# Altium schematic symbol library Schlib1.SchLib: 53 symbols
Pins are listed as number, name and electrical type; pins without a type are passive.

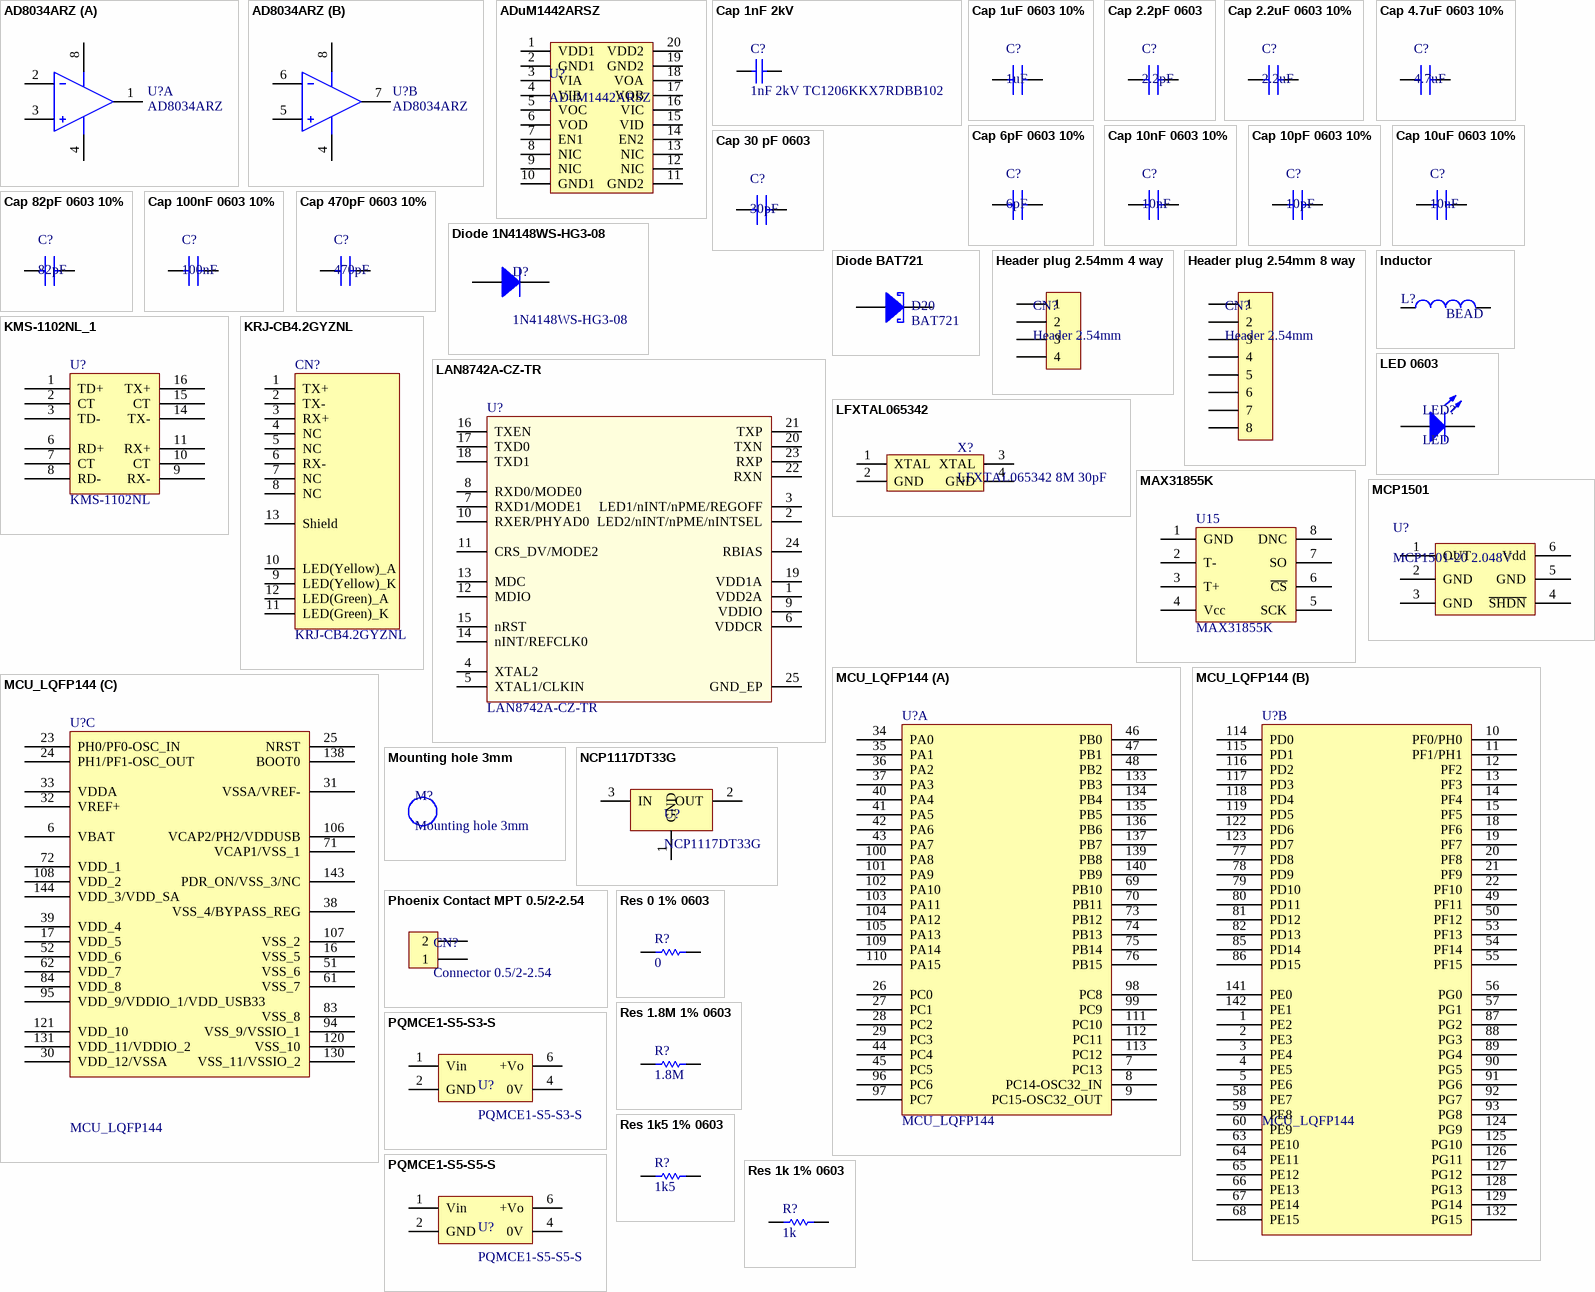
[diagram p0: symbols AD8034ARZ to Res 1k 1% 0603]

## AD8034ARZ
designator U?
dual op amp; Published: 8-Jun-2000; LatestRevisionDate: 17-Jul-2002; LatestRevisionNote: Re-released for DXP Platform.; DatasheetVersion: REV. B; PackageVersion: 1990; PackageReference: H-08A; Publisher: Altium Limited; PackageDescription: Can; 8 Leads; Pin Circle Dia. 5.08 mm; Lead Dia. 0.53 mm (max); ComponentLink1Description: Manufacturer Link; ComponentLink1URL: http://www.analog.com/
simulation model AD645A (Spice Subcircuit)
footprint 8-SOIC_N AD8034ARZ
part A pins: 1 OUT1, 2 -IN1, 3 +IN1, 4 V- (power), 8 V+ (power)
part B pins: 4 V- (power), 5 +IN2, 6 -IN2, 7 OUT1, 8 V+ (power)

## ADuM1442ARSZ
designator U?
ADuM1442ARSZ isolator; Manuf_Part_1: MCT 0603-50 1% P5 12K1; Manuf_1: VISHAY; Value: 12K1; Order: 2325243; ECCN_US/EU: n/a; Distrib: FARNELL
footprint SSOP ADuM1442ARSZ
pins: 1 VDD1, 2 GND1, 3 VIA, 4 VIB, 5 VOC, 6 VOD, 7 EN1, 8 NIC, 9 NIC, 10 GND1, 11 GND2, 12 NIC, 13 NIC, 14 EN2, 15 VID, 16 VIC, 17 VOB, 18 VOA, 19 GND2, 20 VDD2

## Cap 1nF 2kV
designator C?, comment 1nF 2kV TC1206KKX7RDBB102
Capacitor 1nF 2kV; Value: 100nF; Revision: July-2002: Re-released for DXP Platform.
footprint CAP_1206 (Chip Capacitor, Body 3.2x1.6mm, Height 1mm, IPC Medium Density)
pins: 1, 2

## Cap 1uF 0603 10%
designator C?, comment 1uF
footprint Cap_0603
pins: 1, 2

## Cap 2.2pF 0603
designator C?, comment 2.2pF
footprint Cap_0603
pins: 1, 2

## Cap 2.2uF 0603 10%
designator C?, comment 2.2uF
footprint Cap_0603
pins: 1, 2

## Cap 4.7uF 0603 10%
designator C?, comment 4.7uF
footprint Cap_0603
pins: 1, 2

## Cap 6pF 0603 10%
designator C?, comment 6pF
footprint Cap_0603
pins: 1, 2

## Cap 10nF 0603 10%
designator C?, comment 10nF
footprint Cap_0603
pins: 1, 2

## Cap 10pF 0603 10%
designator C?, comment 10pF
footprint Cap_0603
pins: 1, 2

## Cap 10uF 0603 10%
designator C?, comment 10uF
footprint Cap_0603
pins: 1, 2

## Cap 30 pF 0603
designator C?, comment 30pF
footprint Cap_0603
pins: 1, 2

## Cap 82pF 0603 10%
designator C?, comment 82pF
footprint Cap_0603
pins: 1, 2

## Cap 100nF 0603 10%
designator C?, comment 100nF
footprint Cap_0603
pins: 1, 2

## Cap 470pF 0603 10%
designator C?, comment 470pF
footprint Cap_0603
pins: 1, 2

## Diode 1N4148WS-HG3-08
designator D?, comment 1N4148WS-HG3-08
Published: 8-Jun-2000; LatestRevisionDate: 17-Jul-2002; LatestRevisionNote: Re-released for DXP Platform.; PackageVersion: Sep-1996; PackageReference: SMC; Publisher: Altium Limited; PackageDescription: DO-214-AB/SMC; 2 C-Bend Leads; Body 7.9 x 5.9 mm, inc. leads (LxW); Code_JEDEC: DO-214-AB
simulation model DIODE (Diode)
signal-integrity model Diode
footprint SOD-323 diode 1N4148WS-HG3-08 (1N4148WS-HG3-08)
pins: 1 A, 2 K

## Diode BAT721
designator D20, comment BAT721
Schottky diode BAT721; Published: 8-Jun-2000; LatestRevisionDate: 17-Jul-2002; LatestRevisionNote: Re-released for DXP Platform.; PackageVersion: Sep-1996; PackageReference: SMC; Publisher: Altium Limited; PackageDescription: DO-214-AB/SMC; 2 C-Bend Leads; Body 7.9 x 5.9 mm, inc. leads (LxW); Code_JEDEC: DO-214-AB
simulation model DIODE (Diode)
signal-integrity model Diode
footprint SOT23 BAT721
pins: 1 A, 2 K

## Header plug 2.54mm 4 way
designator CN?, comment Header 2.54mm
footprint header 2.54mm 4way
pins: 1, 2, 3, 4

## Header plug 2.54mm 8 way
designator CN?, comment Header 2.54mm
footprint header 2.54mm 8way
pins: 1, 2, 3, 4, 5, 6, 7, 8

## Inductor
designator L?, comment BEAD
Inductor; Value: 100uH; Published: 8-Jun-2000; Revision: July-2002: Re-released for DXP Platform.; Publisher: Altium Limited
footprint Cap_0603
pins: 1, 2

## KMS-1102NL_1
designator U?, comment KMS-1102NL
footprint Transformer (Footprint not found)
footprint Trans. KMS-1102NL
pins: 1 TD+, 2 CT, 3 TD-, 6 RD+, 7 CT, 8 RD-, 9 RX-, 10 CT, 11 RX+, 14 TX-, 15 CT, 16 TX+

## KRJ-CB4.2GYZNL
designator CN?
100 Base-TX (Fast Ethernet) SMD RJ45 single port (1x1) with LEDS Integrated Magnetics Connector; Manuf_1: HanRun; Manuf_Part_1: HR961160C; Manuf_2: Pulse Electronics Corporation; Manuf_Part_2: J3011G21DNLT; Manuf_3: K.O.D International Holding; Manuf_Part_3: RMT-119A-12F6-GY-04; Distrib: Sub Co; Order: *
footprint RJ45_KRJ-CB4.2GYZNL (RJ45  connector, right angle)
pins: 1 TX+, 2 TX-, 3 RX+, 4 NC, 5 NC, 6 RX-, 7 NC, 8 NC, 9 LED(Yellow)_K, 10 LED(Yellow)_A, 11 LED(Green)_K, 12 LED(Green)_A, 13 Shield

## LAN8742A-CZ-TR
designator U?
LAN8742A-CZ-TR - Small Footprint RMII 10/100 Ethernet, Transceiver with HP Auto-MDIX and flexPWR Technology SQFN-24; Manuf_1: MICROCHIP; Order: LAN8742A-CZ-TR; Manuf_Part_1: LAN8742A-CZ-TR; Distrib: MICROCHIP
footprint QFN24_0R5_4X4 (SQFN 24 Pins, Pitch 0.5mm, 4mmx4mm)
pins: 1 VDD2A, 2 LED2/nINT/nPME/nINTSEL, 3 LED1/nINT/nPME/REGOFF, 4 XTAL2, 5 XTAL1/CLKIN, 6 VDDCR, 7 RXD1/MODE1, 8 RXD0/MODE0, 9 VDDIO, 10 RXER/PHYAD0, 11 CRS_DV/MODE2, 12 MDIO, 13 MDC, 14 nINT/REFCLK0, 15 nRST, 16 TXEN, 17 TXD0, 18 TXD1, 19 VDD1A, 20 TXN, 21 TXP, 22 RXN, 23 RXP, 24 RBIAS, 25 GND_EP

## LED 0603
designator LED?, comment LED
footprint LED 0603
pins: 1 A, 2 K

## LFXTAL065342
designator X?, comment LFXTAL065342 8M 30pF
footprint LFXTAL065342Reel
pins: 1 XTAL, 2 GND, 3 XTAL, 4 GND

## MAX31855K
designator U15
Thermocouple to digital converter
footprint SOIC127P600X175-8N
pins: 1 GND, 2 T-, 3 T+, 4 Vcc, 5 SCK, 6 ~{CS}, 7 SO, 8 DNC

## MCP1501
designator U?, comment MCP1501-20 2.048V
Voltage reference MCP1501T-20E/CHY
footprint SOT23 MCP1501
pins: 1 OUT, 2 GND, 3 GND, 4 ~{SHDN}, 5 GND, 6 Vdd

## MCU_LQFP144
designator U?
footprint LQFP144_0R5_SKT (32-bit MCU ARM-based Cortex-M3 20 X 20mm, 0.5mm Pitch, 1.6mm Max thickness)
part A pins: 7 PC13, 8 PC14-OSC32_IN, 9 PC15-OSC32_OUT, 26 PC0, 27 PC1, 28 PC2, 29 PC3, 34 PA0, 35 PA1, 36 PA2, 37 PA3, 40 PA4, 41 PA5, 42 PA6, 43 PA7, 44 PC4, 45 PC5, 46 PB0, 47 PB1, 48 PB2, 69 PB10, 70 PB11, 73 PB12, 74 PB13, 75 PB14, 76 PB15, 96 PC6, 97 PC7, 98 PC8, 99 PC9, 100 PA8, 101 PA9, 102 PA10, 103 PA11, 104 PA12, 105 PA13, 109 PA14, 110 PA15, 111 PC10, 112 PC11, 113 PC12, 133 PB3, 134 PB4, 135 PB5, 136 PB6, 137 PB7, 139 PB8, 140 PB9
part B pins: 1 PE2, 2 PE3, 3 PE4, 4 PE5, 5 PE6, 10 PF0/PH0, 11 PF1/PH1, 12 PF2, 13 PF3, 14 PF4, 15 PF5, 18 PF6, 19 PF7, 20 PF8, 21 PF9, 22 PF10, 49 PF11, 50 PF12, 53 PF13, 54 PF14, 55 PF15, 56 PG0, 57 PG1, 58 PE7, 59 PE8, 60 PE9, 63 PE10, 64 PE11, 65 PE12, 66 PE13, 67 PE14, 68 PE15, 77 PD8, 78 PD9, 79 PD10, 80 PD11, 81 PD12, 82 PD13, 85 PD14, 86 PD15, 87 PG2, 88 PG3, 89 PG4, 90 PG5, 91 PG6, 92 PG7, 93 PG8, 114 PD0, 115 PD1, 116 PD2, 117 PD3, 118 PD4, 119 PD5, 122 PD6, 123 PD7, 124 PG9, 125 PG10, 126 PG11, 127 PG12, 128 PG13, 129 PG14, 132 PG15, 141 PE0, 142 PE1
part C pins: 6 VBAT, 16 VSS_5, 17 VDD_5, 23 PH0/PF0-OSC_IN, 24 PH1/PF1-OSC_OUT, 25 NRST, 30 VDD_12/VSSA, 31 VSSA/VREF-, 32 VREF+, 33 VDDA, 38 VSS_4/BYPASS_REG, 39 VDD_4, 51 VSS_6, 52 VDD_6, 61 VSS_7, 62 VDD_7, 71 VCAP1/VSS_1, 72 VDD_1, 83 VSS_8, 84 VDD_8, 94 VSS_9/VSSIO_1, 95 VDD_9/VDDIO_1/VDD_USB33, 106 VCAP2/PH2/VDDUSB, 107 VSS_2, 108 VDD_2, 120 VSS_10, 121 VDD_10, 130 VSS_11/VSSIO_2, 131 VDD_11/VDDIO_2, 138 BOOT0, 143 PDR_ON/VSS_3/NC, 144 VDD_3/VDD_SA

## Mounting hole 3mm
designator M?
footprint Mounting_Hole_3mm

## NCP1117DT33G
designator U?
Voltage regulator output 3.3V 800mA (JLC PCB) DPACK
footprint DPACK
pins: 1 GND, 2 OUT, 3 IN

## Phoenix Contact MPT 0.5/2-2.54
designator CN?, comment Connector 0.5/2-2.54
Phoenix Contact MPT 0.5/2-2.54
footprint Connector 0.5/2-2.54
pins: 1, 2

## PQMCE1-S5-S3-S
designator U?
DC-DC isolated coverter 5V to 3.3V
footprint PQMCE1 (DC-DC conv.)
pins: 1 Vin, 2 GND, 4 0V, 6 +Vo

## PQMCE1-S5-S5-S
designator U?
DC-DC isolated coverter 5V to 5V
footprint PQMCE1 (DC-DC conv.)
pins: 1 Vin, 2 GND, 4 0V, 6 +Vo

## Res 0 1% 0603
designator R?, comment 0
Manuf_Part_1: MCT 0603-50 1% P5 12K1; Manuf_1: VISHAY; Value: 12K1; Order: 2325243; ECCN_US/EU: n/a; Distrib: FARNELL
footprint Res_0603
pins: 1, 2

## Res 1.8M 1% 0603
designator R?, comment 1.8M
Manuf_Part_1: MCT 0603-50 1% P5 12K1; Manuf_1: VISHAY; Value: 12K1; Order: 2325243; ECCN_US/EU: n/a; Distrib: FARNELL
footprint Res_0603
pins: 1, 2

## Res 1k5 1% 0603
designator R?, comment 1k5
Manuf_Part_1: MCT 0603-50 1% P5 12K1; Manuf_1: VISHAY; Value: 12K1; Order: 2325243; ECCN_US/EU: n/a; Distrib: FARNELL
footprint Res_0603
pins: 1, 2

## Res 1k 1% 0603
designator R?, comment 1k
Manuf_Part_1: MCT 0603-50 1% P5 12K1; Manuf_1: VISHAY; Value: 12K1; Order: 2325243; ECCN_US/EU: n/a; Distrib: FARNELL
footprint Res_0603
pins: 1, 2

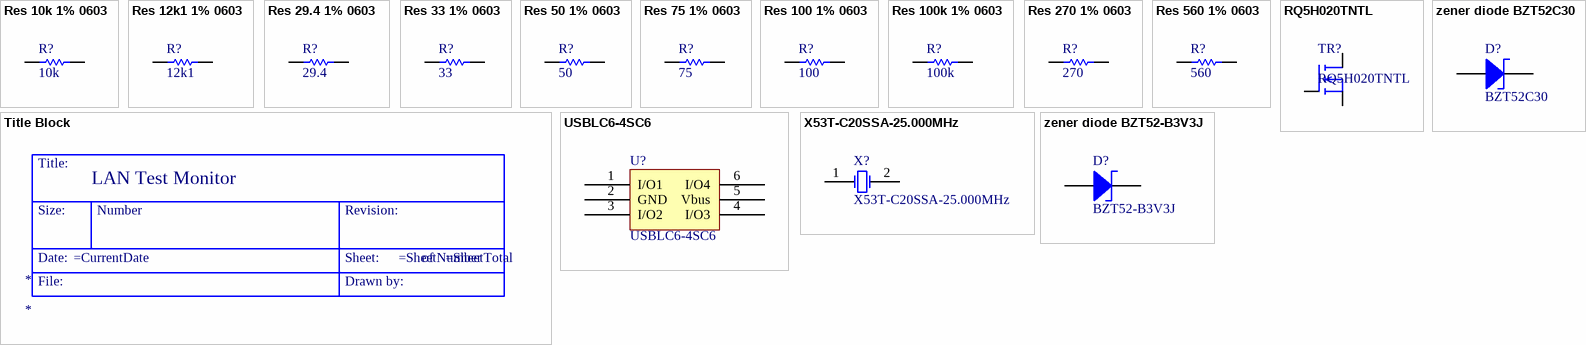
[diagram p1: symbols Res 10k 1% 0603 to zener diode BZT52C30]

## Res 10k 1% 0603
designator R?, comment 10k
Manuf_Part_1: MCT 0603-50 1% P5 12K1; Manuf_1: VISHAY; Value: 12K1; Order: 2325243; ECCN_US/EU: n/a; Distrib: FARNELL
footprint Res_0603
pins: 1, 2

## Res 12k1 1% 0603
designator R?, comment 12k1
Manuf_Part_1: MCT 0603-50 1% P5 12K1; Manuf_1: VISHAY; Order: 2325243; Value: 12K1; ECCN_US/EU: n/a; Distrib: FARNELL
footprint Res_0603
pins: 1, 2

## Res 29.4 1% 0603
designator R?, comment 29.4
Manuf_Part_1: MCT 0603-50 1% P5 12K1; Manuf_1: VISHAY; Value: 12K1; Order: 2325243; ECCN_US/EU: n/a; Distrib: FARNELL
footprint Res_0603
pins: 1, 2

## Res 33 1% 0603
designator R?, comment 33
Manuf_Part_1: MCT 0603-50 1% P5 12K1; Manuf_1: VISHAY; Value: 12K1; Order: 2325243; ECCN_US/EU: n/a; Distrib: FARNELL
footprint Res_0603
pins: 1, 2

## Res 50 1% 0603
designator R?, comment 50
Manuf_Part_1: MCT 0603-50 1% P5 12K1; Manuf_1: VISHAY; Value: 12K1; Order: 2325243; ECCN_US/EU: n/a; Distrib: FARNELL
footprint Res_0603
pins: 1, 2

## Res 75 1% 0603
designator R?, comment 75
Manuf_Part_1: MCT 0603-50 1% P5 12K1; Manuf_1: VISHAY; Value: 12K1; Order: 2325243; ECCN_US/EU: n/a; Distrib: FARNELL
footprint Res_0603
pins: 1, 2

## Res 100 1% 0603
designator R?, comment 100
Manuf_Part_1: MCT 0603-50 1% P5 12K1; Manuf_1: VISHAY; Value: 12K1; Order: 2325243; ECCN_US/EU: n/a; Distrib: FARNELL
footprint Res_0603
pins: 1, 2

## Res 100k 1% 0603
designator R?, comment 100k
Manuf_Part_1: MCT 0603-50 1% P5 12K1; Manuf_1: VISHAY; Value: 12K1; Order: 2325243; ECCN_US/EU: n/a; Distrib: FARNELL
footprint Res_0603
pins: 1, 2

## Res 270 1% 0603
designator R?, comment 270
Manuf_Part_1: MCT 0603-50 1% P5 12K1; Manuf_1: VISHAY; Value: 12K1; Order: 2325243; ECCN_US/EU: n/a; Distrib: FARNELL
footprint Res_0603
pins: 1, 2

## Res 560 1% 0603
designator R?, comment 560
Manuf_Part_1: MCT 0603-50 1% P5 12K1; Manuf_1: VISHAY; Value: 12K1; Order: 2325243; ECCN_US/EU: n/a; Distrib: FARNELL
footprint Res_0603
pins: 1, 2

## RQ5H020TNTL
designator TR?
MOSFET N-CH 60V 2A 500mW
footprint SOT-346-3 RQ5H020TN
pins: 1, 2, 3

## Title Block
designator *  (graphical)
text: Title:; LAN Test Monitor; Size:; Number; Revision:; Date:; Sheet:; of; File:; Drawn by:

## USBLC6-4SC6
designator U?
footprint SOT23-6L
pins: 1 I/O1, 2 GND, 3 I/O2, 4 I/O3, 5 Vbus, 6 I/O4

## X53T-C20SSA-25.000MHz
designator X?
Crystal Oscillator 25M; Published: 8-Jun-2000; LatestRevisionDate: 17-Jul-2002; LatestRevisionNote: Re-released for DXP Platform.; PackageReference: R38; Publisher: Altium Limited
footprint XTAL_2SM_5R0X3R2 (CRYSTAL 25M Hz  30F SMD 2 pads)
pins: 1 OSC1, 2 OSC2
2 alternate drawings of the same symbol

## zener diode BZT52-B3V3J
designator D?, comment BZT52-B3V3J
Zener Diode BZT52-B3V3J; Published: 8-Jun-2000; LatestRevisionDate: 17-Jul-2002; LatestRevisionNote: Re-released for DXP Platform.; PackageReference: DIODE-0.7; Publisher: Altium Limited; PackageDescription: Diode, Thru-Hole; 2 Leads; 0.7 in Pin Spacing
pins: 1 A, 2 K

## zener diode BZT52C30
designator D?, comment BZT52C30
Zener Diode; Published: 8-Jun-2000; LatestRevisionDate: 17-Jul-2002; LatestRevisionNote: Re-released for DXP Platform.; PackageReference: DIODE-0.7; Publisher: Altium Limited; PackageDescription: Diode, Thru-Hole; 2 Leads; 0.7 in Pin Spacing
footprint SOD123 BZT52C30
pins: 1 A, 2 K